# EAGLE library part ADS7843 (library analog-devices)
ADS7843 / AD7843 / XPT2046 Touch controller IC
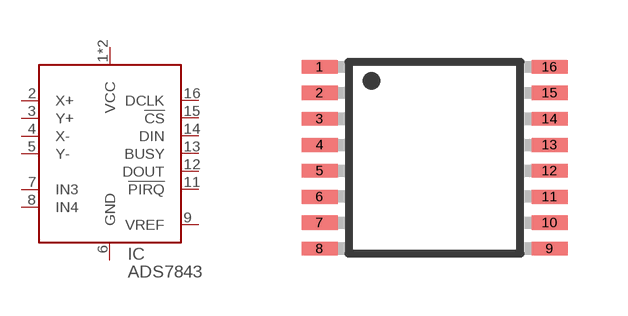
[diagram p151: symbol with the pads of TSSOP16; footprint TSSOP16]

Designator prefix IC

## ADS7843TSSOP16  [TSSOP16]
1  VCC
2  X+
3  Y+
4  X-
5  Y-
6  GND
7  IN3
8  IN4
9  VREF
10  VCC
11  !PIRQ
12  DOUT
13  BUSY
14  DIN
15  !CS
16  DCLK

## Footprint TSSOP16 (pad centres in mm)
16-Lead Thin Shrink Small Outline Package [TSSOP] (RU-16) Source: 8x ADG1408_1409.pdf
smd 0.9 x 0.35: 1 -2.875,2.275; 2 -2.875,1.625; 3 -2.875,0.975; 4 -2.875,0.325; 5 -2.875,-0.325; 6 -2.875,-0.975; 7 -2.875,-1.625; 8 -2.875,-2.275; 9 2.875,-2.275; 10 2.875,-1.625; 11 2.875,-0.975; 12 2.875,-0.325; 13 2.875,0.325; 14 2.875,0.975; 15 2.875,1.625; 16 2.875,2.275